# Altium footprint library Connector_Wire.PcbLib: 290 footprints (part 4 of 19)
Each footprint in its own frame and in the unit in brackets; x right, y up, seen from the top. Pads: shape width x height; smd on the part's side, far side on the other; paste and mask are expansions set on the pad; w line width, h text height; cw(c..) or ccw(c..) is an arc to the next point about the centre after c.
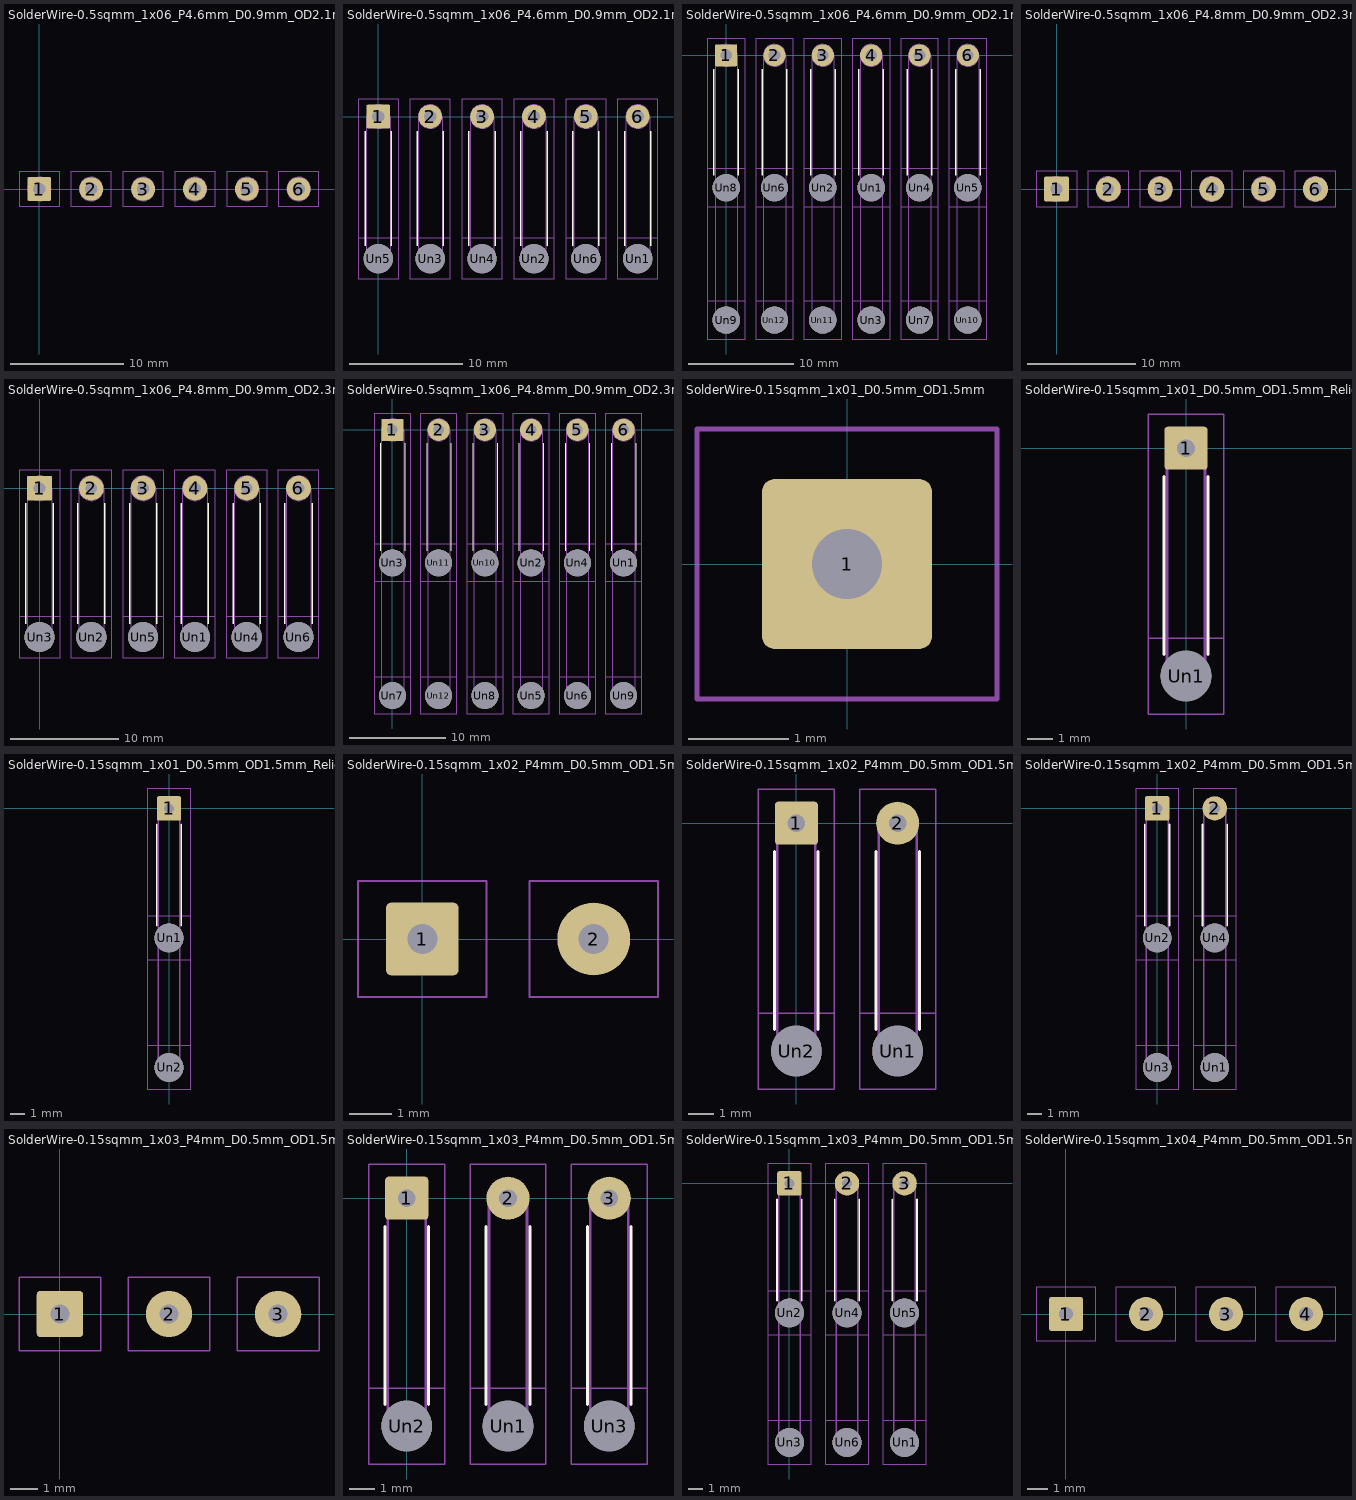
[diagram p3: the footprints below, top view; thin cyan lines are the x and y axes]

## SolderWire-0.5sqmm_1x06_P4.6mm_D0.9mm_OD2.1mm [mm]
pads (6):
  rrect12% 2.1x2.1 hole 1.1: 1(0,0)
  round 2.1 hole 1.1: 2(4.6,0) 3(9.2,0) 4(13.8,0) 5(18.4,0) 6(23,0)
F.CrtYd:
  lines w0.05: -1.8,-1.55 1.8,-1.55 1.8,1.55 -1.8,1.55 -1.8,-1.55 ; 2.8,-1.55 2.8,1.55 6.4,1.55 6.4,-1.55 2.8,-1.55 ; 7.4,-1.55 11,-1.55 11,1.55 7.4,1.55 7.4,-1.55 ; 12,-1.55 12,1.55 15.6,1.55 15.6,-1.55 12,-1.55 ; 16.6,-1.55 20.2,-1.55 20.2,1.55 16.6,1.55 16.6,-1.55 ; 21.2,-1.55 21.2,1.55 24.8,1.55 24.8,-1.55 21.2,-1.55
F.Fab:
  circle w0.1: c13.8,0 r1.05
  circle w0.1: c0,0 r1.05
  circle w0.1: c9.2,0 r1.05
  circle w0.1: c4.6,0 r1.05
  circle w0.1: c23,0 r1.05
  circle w0.1: c18.4,0 r1.05
  text "'.Designator'" at 12.158,-3.159 h0.78

## SolderWire-0.5sqmm_1x06_P4.6mm_D0.9mm_OD2.1mm_Relief [mm]
pads (12):
  rrect12% 2.1x2.1 hole 1.1: 1(0,0)
  round 2.1 hole 1.1: 2(4.6,0) 3(9.2,0) 4(13.8,0) 5(18.4,0) 6(23,0)
  round 2.6 hole 2.6: Un1(23,-12.6) Un2(13.8,-12.6) Un3(4.6,-12.6) Un4(9.2,-12.6) Un5(0,-12.6) Un6(18.4,-12.6)
F.SilkS:
  lines w0.12: -1.16,-11.44 -1.16,-1.31 ; 1.16,-11.44 1.16,-1.31 ; 3.44,-11.44 3.44,-1.31 ; 5.76,-11.44 5.76,-1.31 ; 8.04,-11.44 8.04,-1.31 ; 10.36,-11.44 10.36,-1.31 ; 12.64,-11.44 12.64,-1.31 ; 14.96,-11.44 14.96,-1.31 ; 17.24,-11.44 17.24,-1.31 ; 19.56,-11.44 19.56,-1.31 ; 21.84,-11.44 21.84,-1.31 ; 24.16,-11.44 24.16,-1.31
B.CrtYd:
  lines w0.05: -1.8,-14.4 1.8,-14.4 1.8,-10.8 -1.8,-10.8 -1.8,-14.4 ; 2.8,-14.4 6.4,-14.4 6.4,-10.8 2.8,-10.8 2.8,-14.4 ; 7.4,-14.4 7.4,-10.8 11,-10.8 11,-14.4 7.4,-14.4 ; 12,-14.4 12,-10.8 15.6,-10.8 15.6,-14.4 12,-14.4 ; 16.6,-14.4 20.2,-14.4 20.2,-10.8 16.6,-10.8 16.6,-14.4 ; 21.2,-14.4 24.8,-14.4 24.8,-10.8 21.2,-10.8 21.2,-14.4
F.CrtYd:
  lines w0.05: -1.8,-14.4 1.8,-14.4 1.8,1.55 -1.8,1.55 -1.8,-14.4 ; 2.8,-14.4 2.8,1.55 6.4,1.55 6.4,-14.4 2.8,-14.4 ; 7.4,-14.4 7.4,1.55 11,1.55 11,-14.4 7.4,-14.4 ; 12,-14.4 12,1.55 15.6,1.55 15.6,-14.4 12,-14.4 ; 16.6,-14.4 20.2,-14.4 20.2,1.55 16.6,1.55 16.6,-14.4 ; 21.2,-14.4 24.8,-14.4 24.8,1.55 21.2,1.55 21.2,-14.4
F.Fab:
  circle w0.1: c4.6,0 r1.05
  circle w0.1: c18.4,0 r1.05
  circle w0.1: c0,0 r1.05
  circle w0.1: c23,0 r1.05
  circle w0.1: c18.4,-12.6 r1.05
  circle w0.1: c4.6,-12.6 r1.05
  circle w0.1: c0,-12.6 r1.05
  circle w0.1: c9.2,-12.6 r1.05
  circle w0.1: c13.8,0 r1.05
  circle w0.1: c23,-12.6 r1.05
  circle w0.1: c9.2,0 r1.05
  circle w0.1: c13.8,-12.6 r1.05
  lines w0.1: -1.05,-12.6 -1.05,0 ; 1.05,-12.6 1.05,0 ; 3.55,-12.6 3.55,0 ; 5.65,-12.6 5.65,0 ; 8.15,-12.6 8.15,0 ; 10.25,-12.6 10.25,0 ; 12.75,-12.6 12.75,0 ; 14.85,-12.6 14.85,0 ; 17.35,-12.6 17.35,0 ; 19.45,-12.6 19.45,0 ; 21.95,-12.6 21.95,0 ; 24.05,-12.6 24.05,0
  text "'.Designator'" at 12.34,-10.347 h1

## SolderWire-0.5sqmm_1x06_P4.6mm_D0.9mm_OD2.1mm_Relief2x [mm]
pads (18):
  rrect12% 2.1x2.1 hole 1.1: 1(0,0)
  round 2.1 hole 1.1: 2(4.6,0) 3(9.2,0) 4(13.8,0) 5(18.4,0) 6(23,0)
  round 2.6 hole 2.6: Un1(13.8,-12.6) Un2(9.2,-12.6) Un3(13.8,-25.2) Un4(18.4,-12.6) Un5(23,-12.6) Un6(4.6,-12.6) Un7(18.4,-25.2) Un8(0,-12.6) Un9(0,-25.2) Un10(23,-25.2) Un11(9.2,-25.2) Un12(4.6,-25.2)
F.SilkS:
  lines w0.12: -1.16,-11.44 -1.16,-1.31 ; 1.16,-11.44 1.16,-1.31 ; 3.44,-11.44 3.44,-1.31 ; 5.76,-11.44 5.76,-1.31 ; 8.04,-11.44 8.04,-1.31 ; 10.36,-11.44 10.36,-1.31 ; 12.64,-11.44 12.64,-1.31 ; 14.96,-11.44 14.96,-1.31 ; 17.24,-11.44 17.24,-1.31 ; 19.56,-11.44 19.56,-1.31 ; 21.84,-11.44 21.84,-1.31 ; 24.16,-11.44 24.16,-1.31
B.SilkS:
  lines w0.12: -1.16,-24.04 -1.16,-13.76 ; 1.16,-24.04 1.16,-13.76 ; 3.44,-24.04 3.44,-13.76 ; 5.76,-24.04 5.76,-13.76 ; 8.04,-24.04 8.04,-13.76 ; 10.36,-24.04 10.36,-13.76 ; 12.64,-24.04 12.64,-13.76 ; 14.96,-24.04 14.96,-13.76 ; 17.24,-24.04 17.24,-13.76 ; 19.56,-24.04 19.56,-13.76 ; 21.84,-24.04 21.84,-13.76 ; 24.16,-24.04 24.16,-13.76
B.CrtYd:
  lines w0.05: -1.8,-27 1.8,-27 1.8,-10.8 -1.8,-10.8 -1.8,-27 ; 2.8,-27 6.4,-27 6.4,-10.8 2.8,-10.8 2.8,-27 ; 7.4,-27 7.4,-10.8 11,-10.8 11,-27 7.4,-27 ; 12,-27 12,-10.8 15.6,-10.8 15.6,-27 12,-27 ; 16.6,-27 16.6,-10.8 20.2,-10.8 20.2,-27 16.6,-27 ; 21.2,-27 24.8,-27 24.8,-10.8 21.2,-10.8 21.2,-27
F.CrtYd:
  lines w0.05: -1.8,-27 -1.8,-23.4 1.8,-23.4 1.8,-27 -1.8,-27 ; -1.8,-14.4 -1.8,1.55 1.8,1.55 1.8,-14.4 -1.8,-14.4 ; 2.8,-27 6.4,-27 6.4,-23.4 2.8,-23.4 2.8,-27 ; 2.8,-14.4 6.4,-14.4 6.4,1.55 2.8,1.55 2.8,-14.4 ; 7.4,-27 7.4,-23.4 11,-23.4 11,-27 7.4,-27 ; 7.4,-14.4 11,-14.4 11,1.55 7.4,1.55 7.4,-14.4 ; 12,-27 15.6,-27 15.6,-23.4 12,-23.4 12,-27 ; 12,-14.4 12,1.55 15.6,1.55 15.6,-14.4 12,-14.4 ; 16.6,-27 16.6,-23.4 20.2,-23.4 20.2,-27 16.6,-27 ; 16.6,-14.4 16.6,1.55 20.2,1.55 20.2,-14.4 16.6,-14.4 ; 21.2,-27 24.8,-27 24.8,-23.4 21.2,-23.4 21.2,-27 ; 21.2,-14.4 21.2,1.55 24.8,1.55 24.8,-14.4 21.2,-14.4
B.Fab:
  circle w0.1: c18.4,-12.6 r1.05
  circle w0.1: c0,-12.6 r1.05
  circle w0.1: c4.6,-12.6 r1.05
  circle w0.1: c9.2,-12.6 r1.05
  circle w0.1: c18.4,-25.2 r1.05
  circle w0.1: c9.2,-25.2 r1.05
  circle w0.1: c23,-25.2 r1.05
  circle w0.1: c0,-25.2 r1.05
  circle w0.1: c13.8,-25.2 r1.05
  circle w0.1: c13.8,-12.6 r1.05
  circle w0.1: c23,-12.6 r1.05
  circle w0.1: c4.6,-25.2 r1.05
  lines w0.1: -1.05,-25.2 -1.05,-12.6 ; 1.05,-25.2 1.05,-12.6 ; 3.55,-25.2 3.55,-12.6 ; 5.65,-25.2 5.65,-12.6 ; 8.15,-25.2 8.15,-12.6 ; 10.25,-25.2 10.25,-12.6 ; 12.75,-25.2 12.75,-12.6 ; 14.85,-25.2 14.85,-12.6 ; 17.35,-25.2 17.35,-12.6 ; 19.45,-25.2 19.45,-12.6 ; 21.95,-25.2 21.95,-12.6 ; 24.05,-25.2 24.05,-12.6
F.Fab:
  circle w0.1: c4.6,-25.2 r1.05
  circle w0.1: c18.4,-12.6 r1.05
  circle w0.1: c0,0 r1.05
  circle w0.1: c9.2,-12.6 r1.05
  circle w0.1: c13.8,0 r1.05
  circle w0.1: c0,-25.2 r1.05
  circle w0.1: c13.8,-12.6 r1.05
  circle w0.1: c13.8,-25.2 r1.05
  circle w0.1: c0,-12.6 r1.05
  circle w0.1: c23,0 r1.05
  circle w0.1: c18.4,0 r1.05
  circle w0.1: c23,-12.6 r1.05
  circle w0.1: c9.2,-25.2 r1.05
  circle w0.1: c4.6,0 r1.05
  circle w0.1: c23,-25.2 r1.05
  circle w0.1: c4.6,-12.6 r1.05
  circle w0.1: c9.2,0 r1.05
  circle w0.1: c18.4,-25.2 r1.05
  lines w0.1: -1.05,-12.6 -1.05,0 ; 1.05,-12.6 1.05,0 ; 3.55,-12.6 3.55,0 ; 5.65,-12.6 5.65,0 ; 8.15,-12.6 8.15,0 ; 10.25,-12.6 10.25,0 ; 12.75,-12.6 12.75,0 ; 14.85,-12.6 14.85,0 ; 17.35,-12.6 17.35,0 ; 19.45,-12.6 19.45,0 ; 21.95,-12.6 21.95,0 ; 24.05,-12.6 24.05,0
  text "'.Designator'" at 12.34,-10.347 h1

## SolderWire-0.5sqmm_1x06_P4.8mm_D0.9mm_OD2.3mm [mm]
pads (6):
  rrect11% 2.3x2.3 hole 1.1: 1(0,0)
  round 2.3 hole 1.1: 2(4.8,0) 3(9.6,0) 4(14.4,0) 5(19.2,0) 6(24,0)
F.CrtYd:
  lines w0.05: -1.9,-1.65 1.9,-1.65 1.9,1.65 -1.9,1.65 -1.9,-1.65 ; 2.9,-1.65 2.9,1.65 6.7,1.65 6.7,-1.65 2.9,-1.65 ; 7.7,-1.65 7.7,1.65 11.5,1.65 11.5,-1.65 7.7,-1.65 ; 12.5,-1.65 12.5,1.65 16.3,1.65 16.3,-1.65 12.5,-1.65 ; 17.3,-1.65 21.1,-1.65 21.1,1.65 17.3,1.65 17.3,-1.65 ; 22.1,-1.65 22.1,1.65 25.9,1.65 25.9,-1.65 22.1,-1.65
F.Fab:
  circle w0.1: c9.6,0 r1.15
  circle w0.1: c24,0 r1.15
  circle w0.1: c0,0 r1.15
  circle w0.1: c4.8,0 r1.15
  circle w0.1: c19.2,0 r1.15
  circle w0.1: c14.4,0 r1.15
  text "'.Designator'" at 12.686,-3.315 h0.82

## SolderWire-0.5sqmm_1x06_P4.8mm_D0.9mm_OD2.3mm_Relief [mm]
pads (12):
  rrect11% 2.3x2.3 hole 1.1: 1(0,0)
  round 2.3 hole 1.1: 2(4.8,0) 3(9.6,0) 4(14.4,0) 5(19.2,0) 6(24,0)
  round 2.8 hole 2.8: Un1(14.4,-13.8) Un2(4.8,-13.8) Un3(0,-13.8) Un4(19.2,-13.8) Un5(9.6,-13.8) Un6(24,-13.8)
F.SilkS:
  lines w0.12: -1.26,-12.54 -1.26,-1.41 ; 1.26,-12.54 1.26,-1.41 ; 3.54,-12.54 3.54,-1.41 ; 6.06,-12.54 6.06,-1.41 ; 8.34,-12.54 8.34,-1.41 ; 10.86,-12.54 10.86,-1.41 ; 13.14,-12.54 13.14,-1.41 ; 15.66,-12.54 15.66,-1.41 ; 17.94,-12.54 17.94,-1.41 ; 20.46,-12.54 20.46,-1.41 ; 22.74,-12.54 22.74,-1.41 ; 25.26,-12.54 25.26,-1.41
B.CrtYd:
  lines w0.05: -1.9,-15.7 -1.9,-11.9 1.9,-11.9 1.9,-15.7 -1.9,-15.7 ; 2.9,-15.7 2.9,-11.9 6.7,-11.9 6.7,-15.7 2.9,-15.7 ; 7.7,-15.7 7.7,-11.9 11.5,-11.9 11.5,-15.7 7.7,-15.7 ; 12.5,-15.7 12.5,-11.9 16.3,-11.9 16.3,-15.7 12.5,-15.7 ; 17.3,-15.7 21.1,-15.7 21.1,-11.9 17.3,-11.9 17.3,-15.7 ; 22.1,-15.7 25.9,-15.7 25.9,-11.9 22.1,-11.9 22.1,-15.7
F.CrtYd:
  lines w0.05: -1.9,-15.7 -1.9,1.65 1.9,1.65 1.9,-15.7 -1.9,-15.7 ; 2.9,-15.7 2.9,1.65 6.7,1.65 6.7,-15.7 2.9,-15.7 ; 7.7,-15.7 11.5,-15.7 11.5,1.65 7.7,1.65 7.7,-15.7 ; 12.5,-15.7 12.5,1.65 16.3,1.65 16.3,-15.7 12.5,-15.7 ; 17.3,-15.7 21.1,-15.7 21.1,1.65 17.3,1.65 17.3,-15.7 ; 22.1,-15.7 25.9,-15.7 25.9,1.65 22.1,1.65 22.1,-15.7
F.Fab:
  circle w0.1: c19.2,0 r1.15
  circle w0.1: c19.2,-13.8 r1.15
  circle w0.1: c14.4,-13.8 r1.15
  circle w0.1: c24,0 r1.15
  circle w0.1: c24,-13.8 r1.15
  circle w0.1: c9.6,-13.8 r1.15
  circle w0.1: c9.6,0 r1.15
  circle w0.1: c0,-13.8 r1.15
  circle w0.1: c0,0 r1.15
  circle w0.1: c4.8,-13.8 r1.15
  circle w0.1: c4.8,0 r1.15
  circle w0.1: c14.4,0 r1.15
  lines w0.1: -1.15,-13.8 -1.15,0 ; 1.15,-13.8 1.15,0 ; 3.65,-13.8 3.65,0 ; 5.95,-13.8 5.95,0 ; 8.45,-13.8 8.45,0 ; 10.75,-13.8 10.75,0 ; 13.25,-13.8 13.25,0 ; 15.55,-13.8 15.55,0 ; 18.05,-13.8 18.05,0 ; 20.35,-13.8 20.35,0 ; 22.85,-13.8 22.85,0 ; 25.15,-13.8 25.15,0
  text "'.Designator'" at 12.84,-10.947 h1

## SolderWire-0.5sqmm_1x06_P4.8mm_D0.9mm_OD2.3mm_Relief2x [mm]
pads (18):
  rrect11% 2.3x2.3 hole 1.1: 1(0,0)
  round 2.3 hole 1.1: 2(4.8,0) 3(9.6,0) 4(14.4,0) 5(19.2,0) 6(24,0)
  round 2.8 hole 2.8: Un1(24,-13.8) Un2(14.4,-13.8) Un3(0,-13.8) Un4(19.2,-13.8) Un5(14.4,-27.6) Un6(19.2,-27.6) Un7(0,-27.6) Un8(9.6,-27.6) Un9(24,-27.6) Un10(9.6,-13.8) Un11(4.8,-13.8) Un12(4.8,-27.6)
F.SilkS:
  lines w0.12: -1.26,-12.54 -1.26,-1.41 ; 1.26,-12.54 1.26,-1.41 ; 3.54,-12.54 3.54,-1.41 ; 6.06,-12.54 6.06,-1.41 ; 8.34,-12.54 8.34,-1.41 ; 10.86,-12.54 10.86,-1.41 ; 13.14,-12.54 13.14,-1.41 ; 15.66,-12.54 15.66,-1.41 ; 17.94,-12.54 17.94,-1.41 ; 20.46,-12.54 20.46,-1.41 ; 22.74,-12.54 22.74,-1.41 ; 25.26,-12.54 25.26,-1.41
B.SilkS:
  lines w0.12: -1.26,-26.34 -1.26,-15.06 ; 1.26,-26.34 1.26,-15.06 ; 3.54,-26.34 3.54,-15.06 ; 6.06,-26.34 6.06,-15.06 ; 8.34,-26.34 8.34,-15.06 ; 10.86,-26.34 10.86,-15.06 ; 13.14,-26.34 13.14,-15.06 ; 15.66,-26.34 15.66,-15.06 ; 17.94,-26.34 17.94,-15.06 ; 20.46,-26.34 20.46,-15.06 ; 22.74,-26.34 22.74,-15.06 ; 25.26,-26.34 25.26,-15.06
B.CrtYd:
  lines w0.05: -1.9,-29.5 1.9,-29.5 1.9,-11.9 -1.9,-11.9 -1.9,-29.5 ; 2.9,-29.5 2.9,-11.9 6.7,-11.9 6.7,-29.5 2.9,-29.5 ; 7.7,-29.5 7.7,-11.9 11.5,-11.9 11.5,-29.5 7.7,-29.5 ; 12.5,-29.5 16.3,-29.5 16.3,-11.9 12.5,-11.9 12.5,-29.5 ; 17.3,-29.5 17.3,-11.9 21.1,-11.9 21.1,-29.5 17.3,-29.5 ; 22.1,-29.5 25.9,-29.5 25.9,-11.9 22.1,-11.9 22.1,-29.5
F.CrtYd:
  lines w0.05: -1.9,-29.5 1.9,-29.5 1.9,-25.7 -1.9,-25.7 -1.9,-29.5 ; -1.9,-15.7 -1.9,1.65 1.9,1.65 1.9,-15.7 -1.9,-15.7 ; 2.9,-29.5 6.7,-29.5 6.7,-25.7 2.9,-25.7 2.9,-29.5 ; 2.9,-15.7 2.9,1.65 6.7,1.65 6.7,-15.7 2.9,-15.7 ; 7.7,-29.5 7.7,-25.7 11.5,-25.7 11.5,-29.5 7.7,-29.5 ; 7.7,-15.7 7.7,1.65 11.5,1.65 11.5,-15.7 7.7,-15.7 ; 12.5,-29.5 16.3,-29.5 16.3,-25.7 12.5,-25.7 12.5,-29.5 ; 12.5,-15.7 12.5,1.65 16.3,1.65 16.3,-15.7 12.5,-15.7 ; 17.3,-29.5 21.1,-29.5 21.1,-25.7 17.3,-25.7 17.3,-29.5 ; 17.3,-15.7 21.1,-15.7 21.1,1.65 17.3,1.65 17.3,-15.7 ; 22.1,-29.5 22.1,-25.7 25.9,-25.7 25.9,-29.5 22.1,-29.5 ; 22.1,-15.7 22.1,1.65 25.9,1.65 25.9,-15.7 22.1,-15.7
B.Fab:
  circle w0.1: c0,-13.8 r1.15
  circle w0.1: c9.6,-13.8 r1.15
  circle w0.1: c24,-27.6 r1.15
  circle w0.1: c19.2,-13.8 r1.15
  circle w0.1: c24,-13.8 r1.15
  circle w0.1: c9.6,-27.6 r1.15
  circle w0.1: c19.2,-27.6 r1.15
  circle w0.1: c0,-27.6 r1.15
  circle w0.1: c4.8,-13.8 r1.15
  circle w0.1: c14.4,-13.8 r1.15
  circle w0.1: c4.8,-27.6 r1.15
  circle w0.1: c14.4,-27.6 r1.15
  lines w0.1: -1.15,-27.6 -1.15,-13.8 ; 1.15,-27.6 1.15,-13.8 ; 3.65,-27.6 3.65,-13.8 ; 5.95,-27.6 5.95,-13.8 ; 8.45,-27.6 8.45,-13.8 ; 10.75,-27.6 10.75,-13.8 ; 13.25,-27.6 13.25,-13.8 ; 15.55,-27.6 15.55,-13.8 ; 18.05,-27.6 18.05,-13.8 ; 20.35,-27.6 20.35,-13.8 ; 22.85,-27.6 22.85,-13.8 ; 25.15,-27.6 25.15,-13.8
F.Fab:
  circle w0.1: c4.8,-13.8 r1.15
  circle w0.1: c24,-27.6 r1.15
  circle w0.1: c4.8,-27.6 r1.15
  circle w0.1: c14.4,-13.8 r1.15
  circle w0.1: c14.4,-27.6 r1.15
  circle w0.1: c4.8,0 r1.15
  circle w0.1: c19.2,-27.6 r1.15
  circle w0.1: c0,0 r1.15
  circle w0.1: c0,-27.6 r1.15
  circle w0.1: c19.2,0 r1.15
  circle w0.1: c24,0 r1.15
  circle w0.1: c0,-13.8 r1.15
  circle w0.1: c14.4,0 r1.15
  circle w0.1: c9.6,-27.6 r1.15
  circle w0.1: c9.6,-13.8 r1.15
  circle w0.1: c24,-13.8 r1.15
  circle w0.1: c9.6,0 r1.15
  circle w0.1: c19.2,-13.8 r1.15
  lines w0.1: -1.15,-13.8 -1.15,0 ; 1.15,-13.8 1.15,0 ; 3.65,-13.8 3.65,0 ; 5.95,-13.8 5.95,0 ; 8.45,-13.8 8.45,0 ; 10.75,-13.8 10.75,0 ; 13.25,-13.8 13.25,0 ; 15.55,-13.8 15.55,0 ; 18.05,-13.8 18.05,0 ; 20.35,-13.8 20.35,0 ; 22.85,-13.8 22.85,0 ; 25.15,-13.8 25.15,0
  text "'.Designator'" at 12.84,-10.947 h1

## SolderWire-0.15sqmm_1x01_D0.5mm_OD1.5mm [mm]
pads (1):
  rrect15% 1.7x1.7 hole 0.7: 1(0,0)
F.CrtYd:
  lines w0.05: -1.5,-1.35 -1.5,1.35 1.5,1.35 1.5,-1.35 -1.5,-1.35
F.Fab:
  circle w0.1: c0,0 r0.75
  text "'.Designator'" at -1.541,-0.322 h0.38

## SolderWire-0.15sqmm_1x01_D0.5mm_OD1.5mm_Relief [mm]
pads (2):
  rrect15% 1.7x1.7 hole 0.7: 1(0,0)
  round 2 hole 2: Un1(0,-9)
F.SilkS:
  lines w0.12: -0.86,-8.14 -0.86,-1.11 ; 0.86,-8.14 0.86,-1.11
B.CrtYd:
  lines w0.05: -1.5,-10.5 -1.5,-7.5 1.5,-7.5 1.5,-10.5 -1.5,-10.5
F.CrtYd:
  lines w0.05: -1.5,-10.5 1.5,-10.5 1.5,1.35 -1.5,1.35 -1.5,-10.5
F.Fab:
  circle w0.1: c0,-9 r0.75
  circle w0.1: c0,0 r0.75
  lines w0.1: -0.75,-9 -0.75,0 ; 0.75,-9 0.75,0
  text "'.Designator'" at 0.84,-8.547 h1

## SolderWire-0.15sqmm_1x01_D0.5mm_OD1.5mm_Relief2x [mm]
pads (3):
  rrect15% 1.7x1.7 hole 0.7: 1(0,0)
  round 2 hole 2: Un1(0,-9) Un2(0,-18)
F.SilkS:
  lines w0.12: -0.86,-8.14 -0.86,-1.11 ; 0.86,-8.14 0.86,-1.11
B.SilkS:
  lines w0.12: -0.86,-17.14 -0.86,-9.86 ; 0.86,-17.14 0.86,-9.86
B.CrtYd:
  lines w0.05: -1.5,-19.5 1.5,-19.5 1.5,-7.5 -1.5,-7.5 -1.5,-19.5
F.CrtYd:
  lines w0.05: -1.5,-19.5 -1.5,-16.5 1.5,-16.5 1.5,-19.5 -1.5,-19.5 ; -1.5,-10.5 -1.5,1.35 1.5,1.35 1.5,-10.5 -1.5,-10.5
B.Fab:
  circle w0.1: c0,-9 r0.75
  circle w0.1: c0,-18 r0.75
  lines w0.1: -0.75,-18 -0.75,-9 ; 0.75,-18 0.75,-9
F.Fab:
  circle w0.1: c0,0 r0.75
  circle w0.1: c0,-18 r0.75
  circle w0.1: c0,-9 r0.75
  lines w0.1: -0.75,-9 -0.75,0 ; 0.75,-9 0.75,0
  text "'.Designator'" at 0.84,-8.547 h1

## SolderWire-0.15sqmm_1x02_P4mm_D0.5mm_OD1.5mm [mm]
pads (2):
  rrect15% 1.7x1.7 hole 0.7: 1(0,0)
  round 1.7 hole 0.7: 2(4,0)
F.CrtYd:
  lines w0.05: -1.5,-1.35 1.5,-1.35 1.5,1.35 -1.5,1.35 -1.5,-1.35 ; 2.5,-1.35 2.5,1.35 5.5,1.35 5.5,-1.35 2.5,-1.35
F.Fab:
  circle w0.1: c4,0 r0.75
  circle w0.1: c0,0 r0.75
  text "'.Designator'" at 2.569,-2.75 h0.68

## SolderWire-0.15sqmm_1x02_P4mm_D0.5mm_OD1.5mm_Relief [mm]
pads (4):
  rrect15% 1.7x1.7 hole 0.7: 1(0,0)
  round 1.7 hole 0.7: 2(4,0)
  round 2 hole 2: Un1(4,-9) Un2(0,-9)
F.SilkS:
  lines w0.12: -0.86,-8.14 -0.86,-1.11 ; 0.86,-8.14 0.86,-1.11 ; 3.14,-8.14 3.14,-1.11 ; 4.86,-8.14 4.86,-1.11
B.CrtYd:
  lines w0.05: -1.5,-10.5 1.5,-10.5 1.5,-7.5 -1.5,-7.5 -1.5,-10.5 ; 2.5,-10.5 2.5,-7.5 5.5,-7.5 5.5,-10.5 2.5,-10.5
F.CrtYd:
  lines w0.05: -1.5,-10.5 -1.5,1.35 1.5,1.35 1.5,-10.5 -1.5,-10.5 ; 2.5,-10.5 2.5,1.35 5.5,1.35 5.5,-10.5 2.5,-10.5
F.Fab:
  circle w0.1: c4,-9 r0.75
  circle w0.1: c4,0 r0.75
  circle w0.1: c0,-9 r0.75
  circle w0.1: c0,0 r0.75
  lines w0.1: -0.75,-9 -0.75,0 ; 0.75,-9 0.75,0 ; 3.25,-9 3.25,0 ; 4.75,-9 4.75,0
  text "'.Designator'" at 2.84,-8.547 h1

## SolderWire-0.15sqmm_1x02_P4mm_D0.5mm_OD1.5mm_Relief2x [mm]
pads (6):
  rrect15% 1.7x1.7 hole 0.7: 1(0,0)
  round 1.7 hole 0.7: 2(4,0)
  round 2 hole 2: Un1(4,-18) Un2(0,-9) Un3(0,-18) Un4(4,-9)
F.SilkS:
  lines w0.12: -0.86,-8.14 -0.86,-1.11 ; 0.86,-8.14 0.86,-1.11 ; 3.14,-8.14 3.14,-1.11 ; 4.86,-8.14 4.86,-1.11
B.SilkS:
  lines w0.12: -0.86,-17.14 -0.86,-9.86 ; 0.86,-17.14 0.86,-9.86 ; 3.14,-17.14 3.14,-9.86 ; 4.86,-17.14 4.86,-9.86
B.CrtYd:
  lines w0.05: -1.5,-19.5 1.5,-19.5 1.5,-7.5 -1.5,-7.5 -1.5,-19.5 ; 2.5,-19.5 2.5,-7.5 5.5,-7.5 5.5,-19.5 2.5,-19.5
F.CrtYd:
  lines w0.05: -1.5,-19.5 -1.5,-16.5 1.5,-16.5 1.5,-19.5 -1.5,-19.5 ; -1.5,-10.5 1.5,-10.5 1.5,1.35 -1.5,1.35 -1.5,-10.5 ; 2.5,-19.5 5.5,-19.5 5.5,-16.5 2.5,-16.5 2.5,-19.5 ; 2.5,-10.5 5.5,-10.5 5.5,1.35 2.5,1.35 2.5,-10.5
B.Fab:
  circle w0.1: c4,-18 r0.75
  circle w0.1: c0,-9 r0.75
  circle w0.1: c0,-18 r0.75
  circle w0.1: c4,-9 r0.75
  lines w0.1: -0.75,-18 -0.75,-9 ; 0.75,-18 0.75,-9 ; 3.25,-18 3.25,-9 ; 4.75,-18 4.75,-9
F.Fab:
  circle w0.1: c4,0 r0.75
  circle w0.1: c4,-9 r0.75
  circle w0.1: c4,-18 r0.75
  circle w0.1: c0,-9 r0.75
  circle w0.1: c0,-18 r0.75
  circle w0.1: c0,0 r0.75
  lines w0.1: -0.75,-9 -0.75,0 ; 0.75,-9 0.75,0 ; 3.25,-9 3.25,0 ; 4.75,-9 4.75,0
  text "'.Designator'" at 2.84,-8.547 h1

## SolderWire-0.15sqmm_1x03_P4mm_D0.5mm_OD1.5mm [mm]
pads (3):
  rrect15% 1.7x1.7 hole 0.7: 1(0,0)
  round 1.7 hole 0.7: 2(4,0) 3(8,0)
F.CrtYd:
  lines w0.05: -1.5,-1.35 -1.5,1.35 1.5,1.35 1.5,-1.35 -1.5,-1.35 ; 2.5,-1.35 5.5,-1.35 5.5,1.35 2.5,1.35 2.5,-1.35 ; 6.5,-1.35 9.5,-1.35 9.5,1.35 6.5,1.35 6.5,-1.35
F.Fab:
  circle w0.1: c4,0 r0.75
  circle w0.1: c0,0 r0.75
  circle w0.1: c8,0 r0.75
  text "'.Designator'" at 2.459,-0.322 h0.38

## SolderWire-0.15sqmm_1x03_P4mm_D0.5mm_OD1.5mm_Relief [mm]
pads (6):
  rrect15% 1.7x1.7 hole 0.7: 1(0,0)
  round 1.7 hole 0.7: 2(4,0) 3(8,0)
  round 2 hole 2: Un1(4,-9) Un2(0,-9) Un3(8,-9)
F.SilkS:
  lines w0.12: -0.86,-8.14 -0.86,-1.11 ; 0.86,-8.14 0.86,-1.11 ; 3.14,-8.14 3.14,-1.11 ; 4.86,-8.14 4.86,-1.11 ; 7.14,-8.14 7.14,-1.11 ; 8.86,-8.14 8.86,-1.11
B.CrtYd:
  lines w0.05: -1.5,-10.5 1.5,-10.5 1.5,-7.5 -1.5,-7.5 -1.5,-10.5 ; 2.5,-10.5 2.5,-7.5 5.5,-7.5 5.5,-10.5 2.5,-10.5 ; 6.5,-10.5 9.5,-10.5 9.5,-7.5 6.5,-7.5 6.5,-10.5
F.CrtYd:
  lines w0.05: -1.5,-10.5 1.5,-10.5 1.5,1.35 -1.5,1.35 -1.5,-10.5 ; 2.5,-10.5 2.5,1.35 5.5,1.35 5.5,-10.5 2.5,-10.5 ; 6.5,-10.5 9.5,-10.5 9.5,1.35 6.5,1.35 6.5,-10.5
F.Fab:
  circle w0.1: c8,0 r0.75
  circle w0.1: c0,0 r0.75
  circle w0.1: c8,-9 r0.75
  circle w0.1: c0,-9 r0.75
  circle w0.1: c4,0 r0.75
  circle w0.1: c4,-9 r0.75
  lines w0.1: -0.75,-9 -0.75,0 ; 0.75,-9 0.75,0 ; 3.25,-9 3.25,0 ; 4.75,-9 4.75,0 ; 7.25,-9 7.25,0 ; 8.75,-9 8.75,0
  text "'.Designator'" at 4.84,-8.547 h1

## SolderWire-0.15sqmm_1x03_P4mm_D0.5mm_OD1.5mm_Relief2x [mm]
pads (9):
  rrect15% 1.7x1.7 hole 0.7: 1(0,0)
  round 1.7 hole 0.7: 2(4,0) 3(8,0)
  round 2 hole 2: Un1(8,-18) Un2(0,-9) Un3(0,-18) Un4(4,-9) Un5(8,-9) Un6(4,-18)
F.SilkS:
  lines w0.12: -0.86,-8.14 -0.86,-1.11 ; 0.86,-8.14 0.86,-1.11 ; 3.14,-8.14 3.14,-1.11 ; 4.86,-8.14 4.86,-1.11 ; 7.14,-8.14 7.14,-1.11 ; 8.86,-8.14 8.86,-1.11
B.SilkS:
  lines w0.12: -0.86,-17.14 -0.86,-9.86 ; 0.86,-17.14 0.86,-9.86 ; 3.14,-17.14 3.14,-9.86 ; 4.86,-17.14 4.86,-9.86 ; 7.14,-17.14 7.14,-9.86 ; 8.86,-17.14 8.86,-9.86
B.CrtYd:
  lines w0.05: -1.5,-19.5 1.5,-19.5 1.5,-7.5 -1.5,-7.5 -1.5,-19.5 ; 2.5,-19.5 2.5,-7.5 5.5,-7.5 5.5,-19.5 2.5,-19.5 ; 6.5,-19.5 6.5,-7.5 9.5,-7.5 9.5,-19.5 6.5,-19.5
F.CrtYd:
  lines w0.05: -1.5,-19.5 -1.5,-16.5 1.5,-16.5 1.5,-19.5 -1.5,-19.5 ; -1.5,-10.5 1.5,-10.5 1.5,1.35 -1.5,1.35 -1.5,-10.5 ; 2.5,-19.5 2.5,-16.5 5.5,-16.5 5.5,-19.5 2.5,-19.5 ; 2.5,-10.5 2.5,1.35 5.5,1.35 5.5,-10.5 2.5,-10.5 ; 6.5,-19.5 6.5,-16.5 9.5,-16.5 9.5,-19.5 6.5,-19.5 ; 6.5,-10.5 6.5,1.35 9.5,1.35 9.5,-10.5 6.5,-10.5
B.Fab:
  circle w0.1: c8,-9 r0.75
  circle w0.1: c8,-18 r0.75
  circle w0.1: c0,-18 r0.75
  circle w0.1: c4,-18 r0.75
  circle w0.1: c4,-9 r0.75
  circle w0.1: c0,-9 r0.75
  lines w0.1: -0.75,-18 -0.75,-9 ; 0.75,-18 0.75,-9 ; 3.25,-18 3.25,-9 ; 4.75,-18 4.75,-9 ; 7.25,-18 7.25,-9 ; 8.75,-18 8.75,-9
F.Fab:
  circle w0.1: c0,-9 r0.75
  circle w0.1: c8,-18 r0.75
  circle w0.1: c0,-18 r0.75
  circle w0.1: c4,-18 r0.75
  circle w0.1: c8,0 r0.75
  circle w0.1: c8,-9 r0.75
  circle w0.1: c4,-9 r0.75
  circle w0.1: c0,0 r0.75
  circle w0.1: c4,0 r0.75
  lines w0.1: -0.75,-9 -0.75,0 ; 0.75,-9 0.75,0 ; 3.25,-9 3.25,0 ; 4.75,-9 4.75,0 ; 7.25,-9 7.25,0 ; 8.75,-9 8.75,0
  text "'.Designator'" at 4.84,-8.547 h1

## SolderWire-0.15sqmm_1x04_P4mm_D0.5mm_OD1.5mm [mm]
pads (4):
  rrect15% 1.7x1.7 hole 0.7: 1(0,0)
  round 1.7 hole 0.7: 2(4,0) 3(8,0) 4(12,0)
F.CrtYd:
  lines w0.05: -1.5,-1.35 1.5,-1.35 1.5,1.35 -1.5,1.35 -1.5,-1.35 ; 2.5,-1.35 5.5,-1.35 5.5,1.35 2.5,1.35 2.5,-1.35 ; 6.5,-1.35 9.5,-1.35 9.5,1.35 6.5,1.35 6.5,-1.35 ; 10.5,-1.35 13.5,-1.35 13.5,1.35 10.5,1.35 10.5,-1.35
F.Fab:
  circle w0.1: c4,0 r0.75
  circle w0.1: c0,0 r0.75
  circle w0.1: c8,0 r0.75
  circle w0.1: c12,0 r0.75
  text "'.Designator'" at 6.569,-2.75 h0.68